# Altium integrated library Microchip Radio Frequency Devices.IntLib: 6 symbols
Pins are listed as number, name and electrical type; pins without a type are passive.

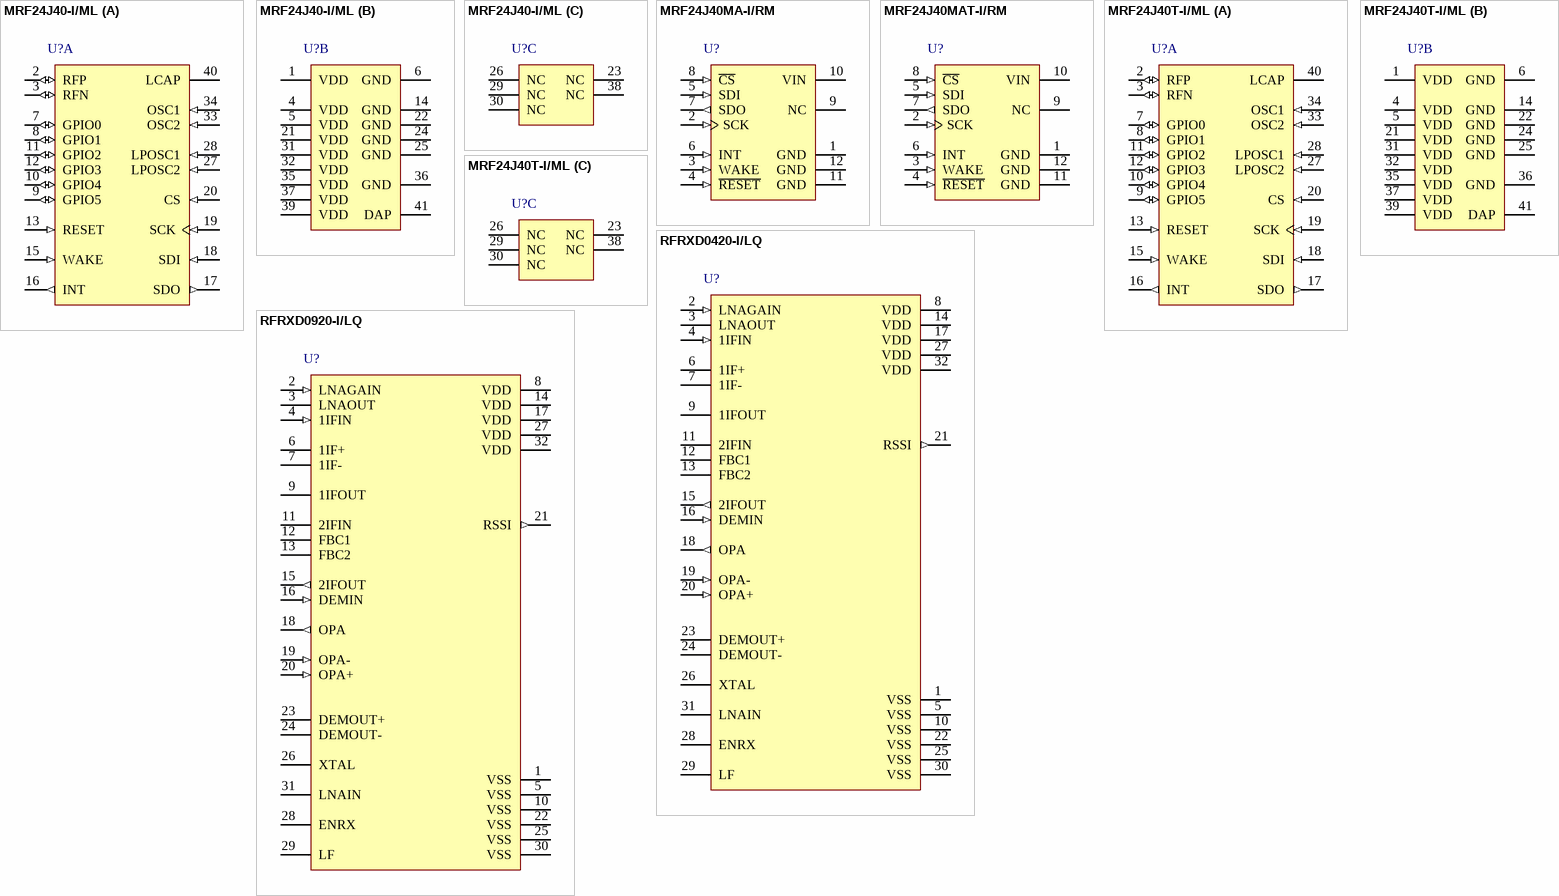
[diagram p0: symbols MRF24J40-I/ML to RFRXD0920-I/LQ]

## MRF24J40-I/ML
designator U?
2.4 GHz IEEE Std. 802.15.4™ RF Transceiver, 40-Pin QFN, Industrial Temperature; Published: 29-Jan-2009; DatasheetVersion: revB, Oct-2008; PackageVersion: revAW, Oct-2008; PackageReference: QFN-ML40; Publisher: Altium Limited; PackageDescription: 40-Lead Plastic Quad Flat, No Lead Package (ML) - 6x6x0.9 mm Body [QFN]; ComponentLink1Description: Manufacturer Link; ComponentLink1URL: http://www.microchip.com; ComponentLink2Description: Datasheet; ComponentLink2URL: http://ww1.microchip.com/downloads/en/DeviceDoc/39776b.pdf; ComponentLink3Description: Packaging Specification; ComponentLink3URL: http://ww1.microchip.com/downloads/en/PackagingSpec/00049AW.pdf
footprint QFN-ML40_N (QFN, 40-Leads, Body 6x6mm, Pitch 0.5mm, IPC Medium Density)
footprint QFN-ML40_L (QFN, 40-Leads, Body 6x6mm, Pitch 0.5mm, IPC High Density)
footprint QFN-ML40_M (QFN, 40-Leads, Body 6x6mm, Pitch 0.5mm, IPC Low Density)
part A pins: 2 RFP (io) "Differential RF input/output (+).", 3 RFN (io) "Differential RF input/output (-).", 7 GPIO0 (io) "General purpose digital I/O, also used as external PA enable.", 8 GPIO1 (io) "General purpose digital I/O, also used as external TX/RX switch control.", 9 GPIO5 (io) "General purpose digital I/O.", 10 GPIO4 (io) "General purpose digital I/O.", 11 GPIO2 (io) "General purpose digital I/O, also used as external TX/RX switch control.", 12 GPIO3 (io) "General purpose digital I/O.", 13 RESET (in) "Global hardware Reset pin active-low.", 15 WAKE (in) "External wake-up trigger (must be enabled in software).", 16 INT (out) "Interrupt pin to microcontroller.", 17 SDO (out) "Serial interface data output from MRF24J40.", 18 SDI (in) "Serial interface data input to MRF24J40.", 19 SCK (in) "Serial interface clock.", 20 CS (in) "Serial interface enable.", 27 LPOSC2 (in) "32 kHz crystal input.", 28 LPOSC1 (in) "32 kHz crystal input.", 33 OSC2 (in) "20 MHz crystal input", 34 OSC1 (in) "20 MHz crystal input", 40 LCAP "PLL loop filter external capacitor. Connected to external 100 pF capacitor."
part B pins: 1 VDD (power) "RF power supply. Bypass with a capacitor as close to the pin as possible.", 4 VDD (power) "RF power supply. Bypass with a capacitor as close to the pin as possible.", 5 VDD (power) "Guard ring power supply. Bypass with a capacitor as close to the pin as possible.", 6 GND (power) "Guard ring ground.", 14 GND (power) "Ground for digital circuit.", 21 VDD (power) "Digital circuit power supply. Bypass with a capacitor as close to the pin as possible.", 22 GND (power) "Ground for digital circuit.", 24 GND (power) "Ground for digital circuit.", 25 GND (power) "Ground for digital circuit.", 31 VDD (power) "Power supply for band gap reference circuit. Bypass with a capacitor as close to the pin as possible.", 32 VDD (power) "Power supply for analog circuit. Bypass with a capacitor as close to the pin as possible.", 35 VDD (power) "PLL power supply. Bypass with a capacitor as close to the pin as possible.", 36 GND (power) "Ground for PLL.", 37 VDD (power) "Charge pump power supply. Bypass with a capacitor as close to the pin as possible.", 39 VDD (power) "VCO supply. Bypass with a capacitor as close to the pin as possible.", 41 DAP (power)
part C pins: 23 NC "No Connection.", 26 NC "No Connection. (Allow pin to float; do not connect signal.)", 29 NC "No Connection. (Allow pin to float; do not connect signal.)", 30 NC "No Connection. (Allow pin to float; do not connect signal.)", 38 NC "No Connection."

## MRF24J40MA-I/RM
designator U?
2.4 GHz IEEE Std. 802.15.4™ RF Transceiver 12-Pin Module, Industrial Temperature; Published: 29-Jan-2009; DatasheetVersion: revB, Nov-2008; PackageVersion: Nov-2008; PackageReference: MRF24J40MA; Publisher: Altium Limited; PackageDescription: Transceiver Module; SM; 12 Leads; Body 1.1 x 0.7 x 0.067" (LxWxH), 0.1" Pitch; ComponentLink1Description: Manufacturer Link; ComponentLink1URL: http://www.microchip.com; ComponentLink2Description: Datasheet; ComponentLink2URL: http://ww1.microchip.com/downloads/en/DeviceDoc/70329b.pdf; ComponentLink3Description: Packaging Specification; ComponentLink3URL: http://ww1.microchip.com/downloads/en/PackagingSpec/00049AW.pdf
footprint MRF24J40MA (SM Module; 12 Leads; Body 27.9x17.8x1.7mm (LxWxH), Microchip Recommended)
pins: 1 GND (power), 2 SCK (in), 3 WAKE (in), 4 ~{RESET} (in), 5 SDI (in), 6 INT (in), 7 SDO (out), 8 ~{CS} (in), 9 NC, 10 VIN (power), 11 GND (power), 12 GND (power)

## MRF24J40MAT-I/RM
designator U?
2.4 GHz IEEE Std. 802.15.4™ RF Transceiver 12-Pin Module, Industrial Temperature, Tape and Reel; Published: 29-Jan-2009; DatasheetVersion: revB, Nov-2008; PackageVersion: Nov-2008; PackageReference: MRF24J40MA; Publisher: Altium Limited; PackageDescription: Transceiver Module; SM; 12 Leads; Body 1.1 x 0.7 x 0.067" (LxWxH), 0.1" Pitch; ComponentLink1Description: Manufacturer Link; ComponentLink1URL: http://www.microchip.com; ComponentLink2Description: Datasheet; ComponentLink2URL: http://ww1.microchip.com/downloads/en/DeviceDoc/70329b.pdf; ComponentLink3Description: Packaging Specification; ComponentLink3URL: http://ww1.microchip.com/downloads/en/PackagingSpec/00049AW.pdf
footprint MRF24J40MA (SM Module; 12 Leads; Body 27.9x17.8x1.7mm (LxWxH), Microchip Recommended)
pins: 1 GND (power), 2 SCK (in), 3 WAKE (in), 4 ~{RESET} (in), 5 SDI (in), 6 INT (in), 7 SDO (out), 8 ~{CS} (in), 9 NC, 10 VIN (power), 11 GND (power), 12 GND (power)

## MRF24J40T-I/ML
designator U?
2.4 GHz IEEE Std. 802.15.4™ RF Transceiver, 40-Pin QFN, Industrial Temperature, Tape and Reel; Published: 29-Jan-2009; DatasheetVersion: revB, Oct-2008; PackageVersion: revAW, Oct-2008; PackageReference: QFN-ML40; Publisher: Altium Limited; PackageDescription: 40-Lead Plastic Quad Flat, No Lead Package (ML) - 6x6x0.9 mm Body [QFN]; ComponentLink1Description: Manufacturer Link; ComponentLink1URL: http://www.microchip.com; ComponentLink2Description: Datasheet; ComponentLink2URL: http://ww1.microchip.com/downloads/en/DeviceDoc/39776b.pdf; ComponentLink3Description: Packaging Specification; ComponentLink3URL: http://ww1.microchip.com/downloads/en/PackagingSpec/00049AW.pdf
footprint QFN-ML40_N (QFN, 40-Leads, Body 6x6mm, Pitch 0.5mm, IPC Medium Density)
footprint QFN-ML40_L (QFN, 40-Leads, Body 6x6mm, Pitch 0.5mm, IPC High Density)
footprint QFN-ML40_M (QFN, 40-Leads, Body 6x6mm, Pitch 0.5mm, IPC Low Density)
part A pins: 2 RFP (io) "Differential RF input/output (+).", 3 RFN (io) "Differential RF input/output (-).", 7 GPIO0 (io) "General purpose digital I/O, also used as external PA enable.", 8 GPIO1 (io) "General purpose digital I/O, also used as external TX/RX switch control.", 9 GPIO5 (io) "General purpose digital I/O.", 10 GPIO4 (io) "General purpose digital I/O.", 11 GPIO2 (io) "General purpose digital I/O, also used as external TX/RX switch control.", 12 GPIO3 (io) "General purpose digital I/O.", 13 RESET (in) "Global hardware Reset pin active-low.", 15 WAKE (in) "External wake-up trigger (must be enabled in software).", 16 INT (out) "Interrupt pin to microcontroller.", 17 SDO (out) "Serial interface data output from MRF24J40.", 18 SDI (in) "Serial interface data input to MRF24J40.", 19 SCK (in) "Serial interface clock.", 20 CS (in) "Serial interface enable.", 27 LPOSC2 (in) "32 kHz crystal input.", 28 LPOSC1 (in) "32 kHz crystal input.", 33 OSC2 (in) "20 MHz crystal input", 34 OSC1 (in) "20 MHz crystal input", 40 LCAP "PLL loop filter external capacitor. Connected to external 100 pF capacitor."
part B pins: 1 VDD (power) "RF power supply. Bypass with a capacitor as close to the pin as possible.", 4 VDD (power) "RF power supply. Bypass with a capacitor as close to the pin as possible.", 5 VDD (power) "Guard ring power supply. Bypass with a capacitor as close to the pin as possible.", 6 GND (power) "Guard ring ground.", 14 GND (power) "Ground for digital circuit.", 21 VDD (power) "Digital circuit power supply. Bypass with a capacitor as close to the pin as possible.", 22 GND (power) "Ground for digital circuit.", 24 GND (power) "Ground for digital circuit.", 25 GND (power) "Ground for digital circuit.", 31 VDD (power) "Power supply for band gap reference circuit. Bypass with a capacitor as close to the pin as possible.", 32 VDD (power) "Power supply for analog circuit. Bypass with a capacitor as close to the pin as possible.", 35 VDD (power) "PLL power supply. Bypass with a capacitor as close to the pin as possible.", 36 GND (power) "Ground for PLL.", 37 VDD (power) "Charge pump power supply. Bypass with a capacitor as close to the pin as possible.", 39 VDD (power) "VCO supply. Bypass with a capacitor as close to the pin as possible.", 41 DAP (power)
part C pins: 23 NC "No Connection.", 26 NC "No Connection. (Allow pin to float; do not connect signal.)", 29 NC "No Connection. (Allow pin to float; do not connect signal.)", 30 NC "No Connection. (Allow pin to float; do not connect signal.)", 38 NC "No Connection."

## RFRXD0420-I/LQ
designator U?
UHF ASK/FSK/FM Receiver, 32-Pin LQFP, Industrial Temperature; Published: 29-Jan-2009; DatasheetVersion: revA, 2008; PackageVersion: revAW, Oct-2008; PackageReference: LQFP-PL32; Publisher: Altium Limited; PackageDescription: 32-Lead Plastic Low-Profile Quad Flatpack (PL) - 7x7x1.4 mm Body, 2.0 mm [LQFP]; ComponentLink1Description: Manufacturer Link; ComponentLink1URL: http://www.microchip.com; ComponentLink2Description: Datasheet; ComponentLink2URL: http://ww1.microchip.com/downloads/en/DeviceDoc/70090a.pdf; ComponentLink3Description: Packaging Specification; ComponentLink3URL: http://ww1.microchip.com/downloads/en/PackagingSpec/00049AW.pdf
footprint LQFP-PL32_N (Thin QFP, 32-Leads, Body 7x7mm, Pitch 0.8mm, IPC Medium Density)
footprint LQFP-PL32_L (Thin QFP, 32-Leads, Body 7x7mm, Pitch 0.8mm, IPC High Density)
footprint LQFP-PL32_M (Thin QFP, 32-Leads, Body 7x7mm, Pitch 0.8mm, IPC Low Density)
pins: 1 VSS (power), 2 LNAGAIN (in), 3 LNAOUT (oc), 4 1IFIN (in), 5 VSS (power), 6 1IF+, 7 1IF-, 8 VDD (power), 9 1IFOUT, 10 VSS (power), 11 2IFIN, 12 FBC1, 13 FBC2, 14 VDD (power), 15 2IFOUT (out), 16 DEMIN (in), 17 VDD (power), 18 OPA (out), 19 OPA- (in), 20 OPA+ (in), 21 RSSI (out), 22 VSS (power), 23 DEMOUT+, 24 DEMOUT-, 25 VSS (power), 26 XTAL, 27 VDD (power), 28 ENRX, 29 LF, 30 VSS (power), 31 LNAIN, 32 VDD (power)

## RFRXD0920-I/LQ
designator U?
UHF ASK/FSK/FM Receiver, 32-Pin LQFP, Industrial Temperature; Published: 29-Jan-2009; DatasheetVersion: revA, 2008; PackageVersion: revAW, Oct-2008; PackageReference: LQFP-PL32; Publisher: Altium Limited; PackageDescription: 32-Lead Plastic Low-Profile Quad Flatpack (PL) - 7x7x1.4 mm Body, 2.0 mm [LQFP]; ComponentLink1Description: Manufacturer Link; ComponentLink1URL: http://www.microchip.com; ComponentLink2Description: Datasheet; ComponentLink2URL: http://ww1.microchip.com/downloads/en/DeviceDoc/70090a.pdf; ComponentLink3Description: Packaging Specification; ComponentLink3URL: http://ww1.microchip.com/downloads/en/PackagingSpec/00049AW.pdf
footprint LQFP-PL32_N (Thin QFP, 32-Leads, Body 7x7mm, Pitch 0.8mm, IPC Medium Density)
footprint LQFP-PL32_L (Thin QFP, 32-Leads, Body 7x7mm, Pitch 0.8mm, IPC High Density)
footprint LQFP-PL32_M (Thin QFP, 32-Leads, Body 7x7mm, Pitch 0.8mm, IPC Low Density)
pins: 1 VSS (power), 2 LNAGAIN (in), 3 LNAOUT (oc), 4 1IFIN (in), 5 VSS (power), 6 1IF+, 7 1IF-, 8 VDD (power), 9 1IFOUT, 10 VSS (power), 11 2IFIN, 12 FBC1, 13 FBC2, 14 VDD (power), 15 2IFOUT (out), 16 DEMIN (in), 17 VDD (power), 18 OPA (out), 19 OPA- (in), 20 OPA+ (in), 21 RSSI (out), 22 VSS (power), 23 DEMOUT+, 24 DEMOUT-, 25 VSS (power), 26 XTAL, 27 VDD (power), 28 ENRX, 29 LF, 30 VSS (power), 31 LNAIN, 32 VDD (power)